# Altium footprint library WLP-9.PcbLib: 1 footprints
Each footprint in its own frame and in the unit in brackets; x right, y up, seen from the top. Pads: shape width x height; smd on the part's side, far side on the other; paste and mask are expansions set on the pad; w line width, h text height; cw(c..) or ccw(c..) is an arc to the next point about the centre after c.
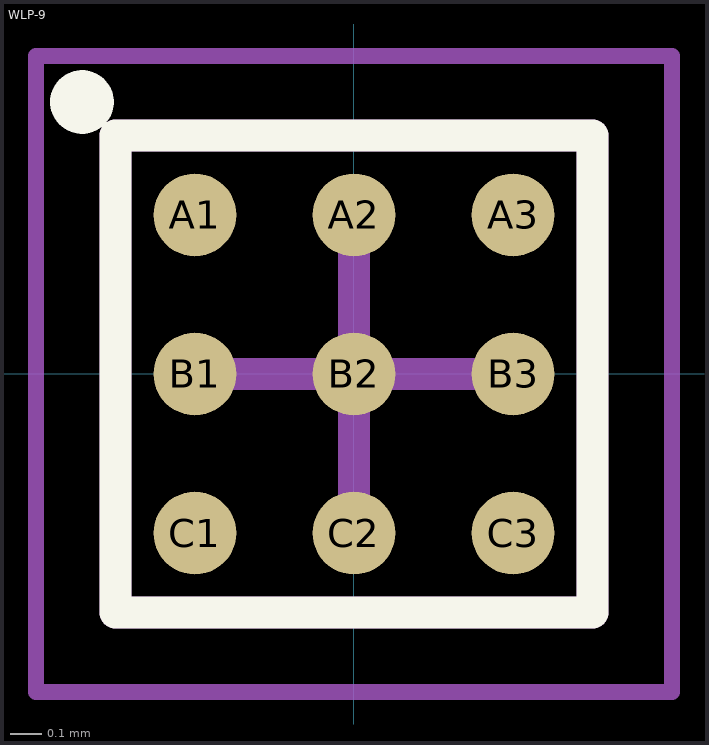
[diagram p0: the footprint, top view; thin cyan lines are the x and y axes]

## WLP-9 [mm] "BGA, 9-Leads, Body 1.50x1.50mmx0.64mm, Pitch 0.50mm"
height 0.64
pads (9):
  round 0.26 smd: A1(-0.5,0.5) A2(0,0.5) A3(0.5,0.5) B1(-0.5,0) B2(0,0) B3(0.5,0) C1(-0.5,-0.5) C2(0,-0.5) C3(0.5,-0.5)
Top Overlay:
  circle w0.1: c-0.855,0.855 r0.05
  lines w0.1: -0.75,-0.75 -0.75,0.75 0.75,0.75 0.75,-0.75 -0.75,-0.75
Mechanical 13:
  lines w0.1: -0.75,-0.75 0.75,-0.75 0.75,0.75 -0.75,0.75 -0.75,-0.75
Mechanical 15:
  lines w0.05: -1,-1 1,-1 1,1 -1,1 -1,-1
  lines w0.1: -0.5,0 0.5,0 ; 0,-0.5 0,0.5
Mechanical 17:
  text "'.Designator'" at -3.175,-0.229 h0.64
Mechanical 19:
  text "'.Comment'" at -3.175,-0.229 h0.64
3D body "WLP-.step": height 0.64, standoff 0, extent -0.75,-0.75 0.75,0.75